# EAGLE library part ORNA (library SteMarie)
Vishay matched pair voltage divider Source: Vishay Doc #60006, 25-JAN-10 <http://www.vishay.com/docs/60006/orndivid.pdf>
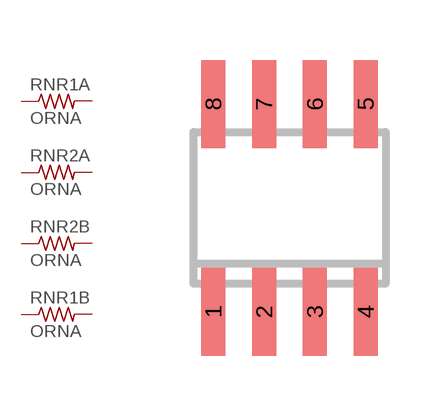
[diagram p1: symbol with the pads of SO-08; footprint SO-08]

Designator prefix RN; gates R1A=R R2A=R R2B=R R1B=R

## ORNA  [SO-08]
1  R1A:1  pas
2  R2A:1  pas
3  R2B:1  pas
4  R1B:1  pas
5  R1B:2  pas
6  R2B:2  pas
7  R2A:2  pas
8  R1A:2  pas

## Footprint SO-08 (pad centres in mm)
Small Outline Narrow Plastic Gull Wing 150-mil body, package type SN
smd 0.6 x 2.2: 1 -1.905,-2.6; 2 -0.635,-2.6; 3 0.635,-2.6; 4 1.905,-2.6; 5 1.905,2.6; 6 0.635,2.6; 7 -0.635,2.6; 8 -1.905,2.6